# Altium schematic symbol library standard-graphic-logo.SchLib: 17 symbols
Pins are listed as number, name and electrical type; pins without a type are passive.

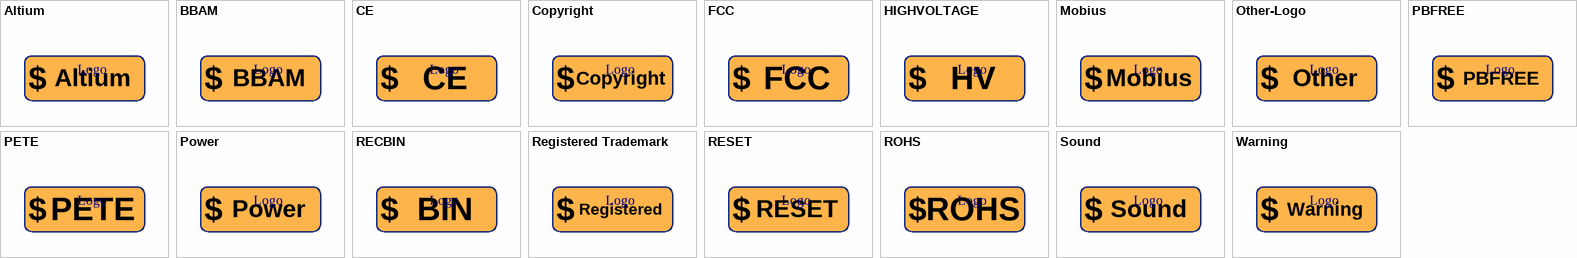
[diagram p0: symbols Altium to Warning]

## Altium
designator Logo, comment Logo  (value not drawn)
DatasheetVersion: 2022
footprint logo-Altium-Hollow
footprint logo-Altium-Hollow-2
footprint logo-Altium-Solid
text: $

## BBAM
designator Logo, comment Logo  (value not drawn)
Bazyaft Bakhshy Az Mahsol(Recover part of the product); DatasheetVersion: 2022
footprint logo-BBAM
footprint logo-BBAM-Hollow
text: $

## CE
designator Logo, comment Logo  (value not drawn)
DatasheetVersion: 2022
footprint logo-CE
text: $

## Copyright
designator Logo, comment Logo  (value not drawn)
DatasheetVersion: 2022
footprint logo-Copyright
footprint logo-Copyright-Hollow
text: $

## FCC
designator Logo, comment Logo  (value not drawn)
DatasheetVersion: 2022
footprint logo-FCC
text: $

## HIGHVOLTAGE
designator Logo, comment Logo  (value not drawn)
DatasheetVersion: 2022
footprint logo-HIGHVOLTAGE
text: $; HV

## Mobius
designator Logo, comment Logo  (value not drawn)
DatasheetVersion: 2022
footprint logo-Mobius-Hollow
footprint logo-Mobius
footprint logo-Mobius-2
footprint logo-Mobius-2-Hollow
text: $

## Other-Logo
designator Logo, comment Logo  (value not drawn)
DatasheetVersion: 2022
footprint logo-Other-1
footprint logo-Other-1-Hollow
footprint logo-Other-2
footprint logo-Other-2-Hollow
footprint logo-Other-3
footprint logo-Other-3-Hollow
footprint logo-Other-4
footprint logo-Other-4-Hollow
footprint logo-Other-6
footprint logo-Other-6-Hollow
footprint logo-Other-7
footprint logo-Other-7-Hollow
footprint logo-Other-8
footprint logo-Other-8-Hollow
footprint logo-Other-9
footprint logo-Other-9-Hollow
footprint logo-Other-10
footprint logo-Other-10-Hollow
text: $; Other

## PBFREE
designator Logo, comment Logo  (value not drawn)
DatasheetVersion: 2022
footprint logo-PBFREE
text: $

## PETE
designator Logo, comment Logo  (value not drawn)
DatasheetVersion: 2022
footprint logo-PETE
footprint logo-PETE-Hollow
text: $

## Power
designator Logo, comment Logo  (value not drawn)
DatasheetVersion: 2022
footprint logo-POWER
text: $

## RECBIN
designator Logo, comment Logo  (value not drawn)
DatasheetVersion: 2022
footprint logo-RECBIN1
footprint logo-RECBIN2
footprint logo-RECBIN3
footprint logo-RECBIN4
text: $; BIN

## Registered Trademark
designator Logo, comment Logo  (value not drawn)
DatasheetVersion: 2022
footprint logo-Registered-Trademark
footprint logo-Registered-Trademark-Hollow
text: $; Registered

## RESET
designator Logo, comment Logo  (value not drawn)
DatasheetVersion: 2022
footprint logo-Reset
footprint logo-Reset2
text: $

## ROHS
designator Logo, comment Logo  (value not drawn)
DatasheetVersion: 2022
footprint logo-ROHS1
footprint logo-ROHS2
footprint logo-ROHS3
footprint logo-ROHS4
footprint logo-ROHS5
text: $

## Sound
designator Logo, comment Logo  (value not drawn)
DatasheetVersion: 2022
footprint logo-A-SPK2
footprint logo-A-SPK
footprint logo-A-Headphone
footprint logo-A-LINEIN
footprint logo-A-MIC
text: $

## Warning
designator Logo, comment Logo  (value not drawn)
DatasheetVersion: 2022
footprint logo-ESD_WARNING0
footprint logo-ESD_WARNING1
footprint logo-ESD_WARNING2
footprint logo-ESD_WARNING3
footprint logo-Warning
text: $